# EAGLE library part PRO_MINI (library Underwater-Camera-v2.0)
Arduino Pro Mini from SparkFun 3.3V
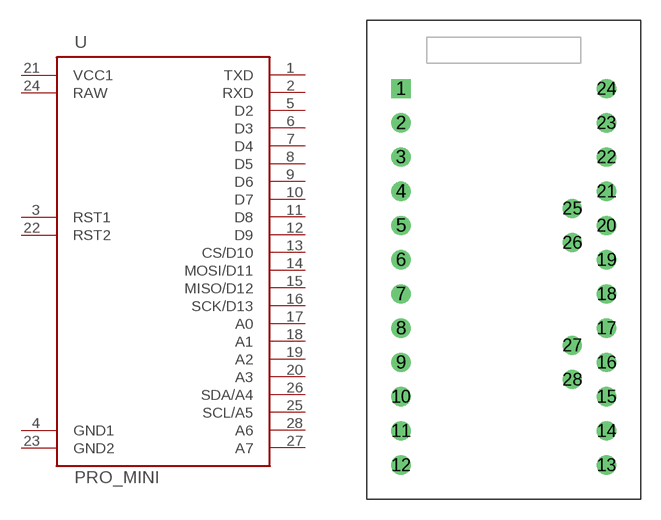
[diagram p13: symbol with the pads of PRO_MINI; footprint PRO_MINI]

Designator prefix U

## PRO_MINI  [PRO_MINI]
1  TXD
2  RXD
3  RST1
4  GND1
5  D2
6  D3
7  D4
8  D5
9  D6
10  D7
11  D8
12  D9
13  CS/D10
14  MOSI/D11
15  MISO/D12
16  SCK/D13
17  A0
18  A1
19  A2
20  A3
21  VCC1
22  RST2
23  GND2
24  RAW
25  SCL/A5
26  SDA/A4
27  A7
28  A6

## Footprint PRO_MINI (pad centres in mm)
Arduino Pro Mini from Sparkfun 3.3V
drill 0.8 pad 1.422 square: 1 -7.62,15.24
drill 0.8 pad 1.422: 2 -7.62,12.7; 3 -7.62,10.16; 4 -7.62,7.62; 5 -7.62,5.08; 6 -7.62,2.54; 7 -7.62,0; 8 -7.62,-2.54; 9 -7.62,-5.08; 10 -7.62,-7.62; 11 -7.62,-10.16; 12 -7.62,-12.7; 13 7.62,-12.7; 14 7.62,-10.16; 15 7.62,-7.62; 16 7.62,-5.08; 17 7.62,-2.54; 18 7.62,0; 19 7.62,2.54; 20 7.62,5.08; 21 7.62,7.62; 22 7.62,10.16; 23 7.62,12.7; 24 7.62,15.24; 25 5.08,6.35; 26 5.08,3.81; 27 5.08,-3.81; 28 5.08,-6.35